# EAGLE library part TUSB3410VF (library TI)
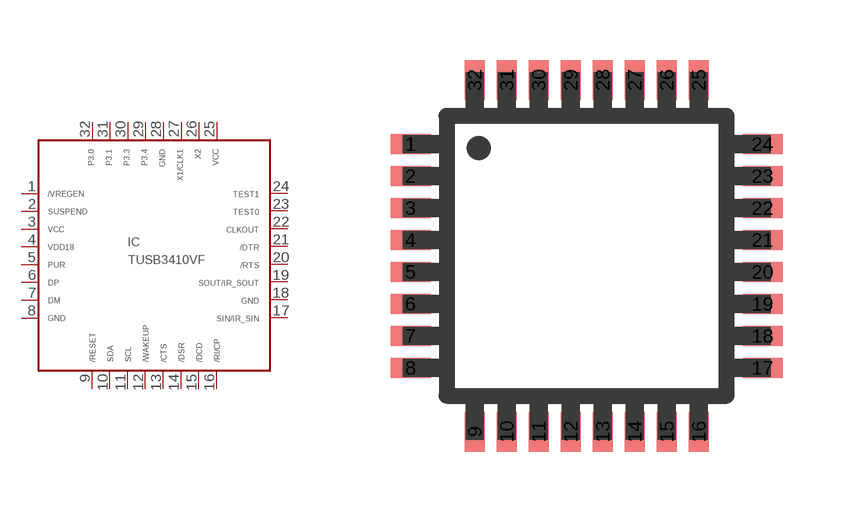
[diagram p2: symbol with the pads of VF32; footprint VF32]

Designator prefix IC

## TUSB3410VF  [VF32]
1  /VREGEN
2  SUSPEND
3  VCC
4  VDD18
5  PUR
6  DP
7  DM
8  GND
9  /RESET
10  SDA
11  SCL
12  /WAKEUP
13  /CTS
14  /DSR
15  /DCD
16  RI/CP
17  SIN/IR_SIN
18  GND
19  SOUT/IR_SOUT
20  /RTS
21  /DTR
22  CLKOUT
23  TEST0
24  TEST1
25  VCC
26  X2
27  X1/CLK1
28  GND
29  P3.4
30  P3.3
31  P3.1
32  P3.0

## Footprint VF32 (pad centres in mm)
smd 1 x 0.5: 1 -4.4,2.8; 2 -4.4,2; 3 -4.4,1.2; 4 -4.4,0.4; 5 -4.4,-0.4; 6 -4.4,-1.2; 7 -4.4,-2; 8 -4.4,-2.8; 17 4.4,-2.8; 18 4.4,-2; 19 4.4,-1.2; 20 4.4,-0.4; 21 4.4,0.4; 22 4.4,1.2; 23 4.4,2; 24 4.4,2.8
smd 0.5 x 1: 9 -2.8,-4.4; 10 -2,-4.4; 11 -1.2,-4.4; 12 -0.4,-4.4; 13 0.4,-4.4; 14 1.2,-4.4; 15 2,-4.4; 16 2.8,-4.4; 25 2.8,4.4; 26 2,4.4; 27 1.2,4.4; 28 0.4,4.4; 29 -0.4,4.4; 30 -1.2,4.4; 31 -2,4.4; 32 -2.8,4.4